# EAGLE library part BQ21040DBVT (library BQ21040DBVT)
Check prices <https://pricing.snapeda.com/parts/BQ21040DBVT/Texas%20Instruments/view-part?ref=eda>
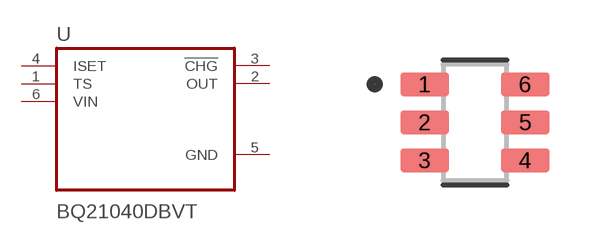
[diagram p0: symbol with the pads of SOT95P280X145-6N; footprint SOT95P280X145-6N]

Designator prefix U

## BQ21040DBVT (Availability: Bad; Description: 1-cell, 0.8-A Li-ion and Li-polymerymer battery charger 6-SOT-23 0 to 125; MF: Texas Instruments; MP: BQ21040DBVT; Package: SOT-23-6 Texas Instruments; Price: None; Purchase-URL: https://pricing.snapeda.com/search/part/BQ21040DBVT/?ref=eda)  [SOT95P280X145-6N]
1  TS  in
2  OUT  out
3  !CHG  out
4  ISET  in
5  GND  pwr
6  VIN  in

## Footprint SOT95P280X145-6N (pad centres in mm)
smd 1.21 x 0.58: 1 -1.255,0.95; 2 -1.255,0; 3 -1.255,-0.95; 4 1.255,-0.95; 5 1.255,0; 6 1.255,0.95